# Altium footprint library TENSILITY_54-00132.PcbLib: 1 footprints
Each footprint in its own frame and in the unit in brackets; x right, y up, seen from the top. Pads: shape width x height; smd on the part's side, far side on the other; paste and mask are expansions set on the pad; w line width, h text height; cw(c..) or ccw(c..) is an arc to the next point about the centre after c.
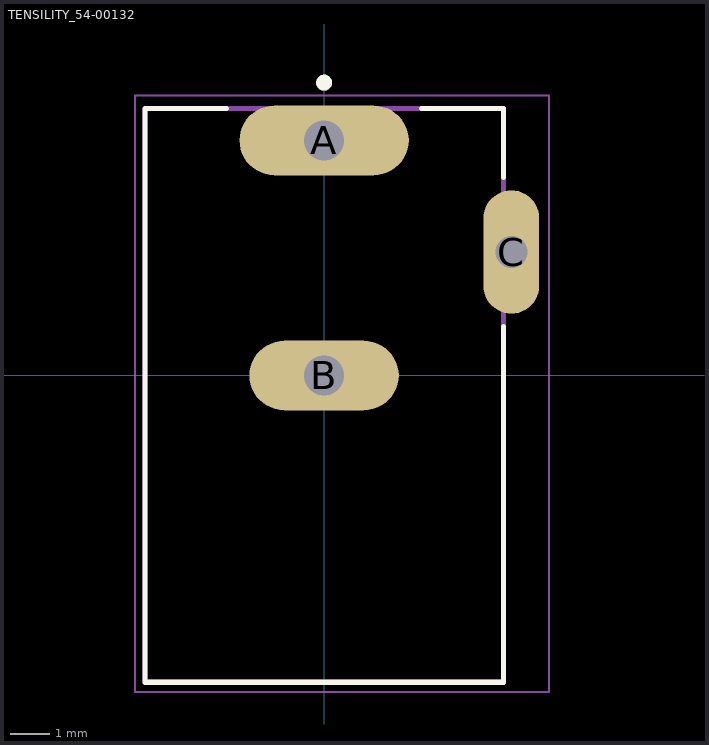
[diagram p0: the footprint, top view; thin cyan lines are the x and y axes]

## TENSILITY_54-00132 [mm]
height 10.8
pads (3):
  oval 4.25x1.75 hole 1 square mask+0.05: A(0,5.9)
  oval 3.75x1.75 hole 1 square mask+0.05: B(0,0)
  oval 1.4x3.1 hole 0.8 square mask+0.05: C(4.7,3.1)
Top Overlay:
  circle w0.2: c0,7.35 r0.1
  lines w0.127: -2.45,6.7 -4.5,6.7 -4.5,-7.7 4.5,-7.7 4.5,1.23 ; 2.45,6.7 4.5,6.7 4.5,4.97
Mechanical 13:
  circle w0.2: c0,7.35 r0.1
  lines w0.127: -4.5,-7.7 4.5,-7.7 4.5,6.7 -4.5,6.7 -4.5,-7.7
Mechanical 15:
  lines w0.05: -4.75,-7.95 -4.75,7.025 5.65,7.025 5.65,-7.95 -4.75,-7.95
3D body "step_temp.STEP": height 10.8, standoff -4.8, extent -4.5,-7.7 4.86,6.7